# Altium schematic symbol library LED-RED.SchLib: 1 symbol
Pins are listed as number, name and electrical type; pins without a type are passive.

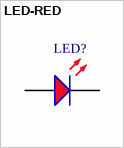
[diagram p0: symbol LED-RED]

## LED-RED
designator LED?
LED,RED
pins: 1 K, 2 A